# Altium footprint library Diode_VS-40EPS08.PcbLib: 1 footprints
Each footprint in its own frame and in the unit in brackets; x right, y up, seen from the top. Pads: shape width x height; smd on the part's side, far side on the other; paste and mask are expansions set on the pad; w line width, h text height; cw(c..) or ccw(c..) is an arc to the next point about the centre after c.
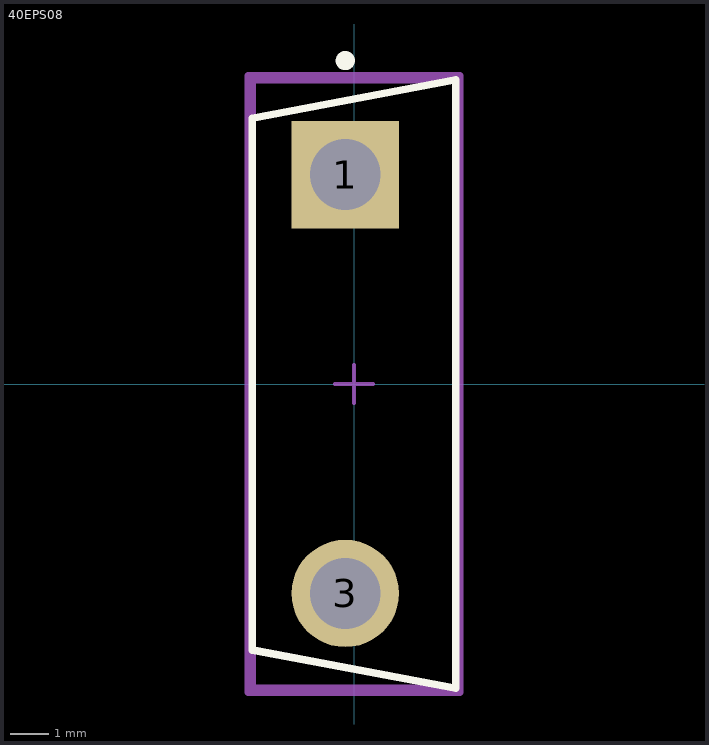
[diagram p0: the footprint, top view; thin cyan lines are the x and y axes]

## 40EPS08 [mm]
pads (2):
  rect 2.8x2.8 hole 1.85 paste-1000 mask+0: 1(-0.228,5.46)
  round 2.8 hole 1.85 paste-1000 mask+0: 3(-0.228,-5.46)
Top Overlay:
  circle w0.25: c-0.228,8.435 r0.125
  lines w0.2: -2.655,-6.935 -2.655,6.935 2.655,7.935 2.655,-7.935 -2.655,-6.935
Top Assembly:
  lines w0.2: -2.755,-8.035 2.755,-8.035 2.755,8.035 -2.755,8.035 -2.755,-8.035
  text ".Designator" at 0,0.188 h1
Top 3D Body:
  lines w0.2: -2.655,-7.935 2.655,-7.935 2.655,7.935 -2.655,7.935 -2.655,-7.935
Top Courtyard:
  lines w0.2: -2.755,-8.035 2.755,-8.035 2.755,8.035 -2.755,8.035 -2.755,-8.035
Top Component Center:
  lines w0.1: -0.5,0 0.5,0 ; 0,-0.5 0,0.5
3D body "Diode_Vishay_VS-40EPS12-M3_eec.STEP": height 0.25, standoff 0, extent -2.755,-8.035 2.755,8.035